# Altium footprint library PCB - IND - INDC2012X92N_V.PcbLib: 1 footprints
Each footprint in its own frame and in the unit in brackets; x right, y up, seen from the top. Pads: shape width x height; smd on the part's side, far side on the other; paste and mask are expansions set on the pad; w line width, h text height; cw(c..) or ccw(c..) is an arc to the next point about the centre after c.
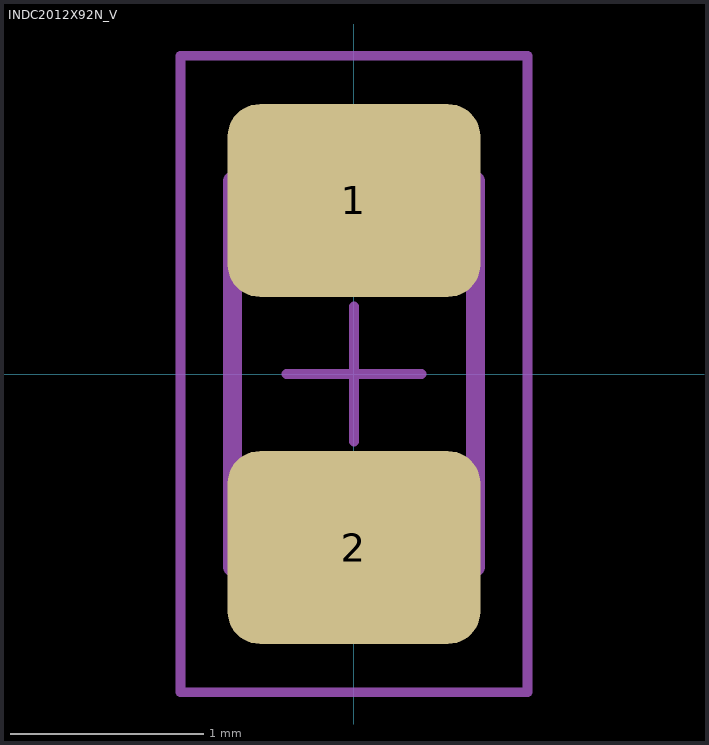
[diagram p0: the footprint, top view; thin cyan lines are the x and y axes]

## INDC2012X92N_V [mm] "Chip Inductor, 2-Leads, Body 2,0x1,2mm, IPC Medium Density"
height 0.92
pads (2):
  rrect33% 1.31x1 smd: 1(0,0.9) 2(0,-0.9)
Top Assembly:
  lines w0.1: -0.625,-0.6 0.63,-0.6 ; -0.625,0.6 0.625,0.6 ; -0.63,-1 -0.63,1 0.63,1 0.63,-1 -0.63,-1
Top Courtyard:
  lines w0.05: -0.9,-1.65 -0.9,1.65 0.9,1.65 0.9,-1.65 -0.9,-1.65
Top Designator:
  text ".Designator" at 0.375,1.175 h0.7
Top Component Center:
  lines w0.05: -0.35,0 0.35,0 ; 0,-0.35 0,0.35
3D body "742792040_Download_STP_WE-CBF-0805_rev1.stp": height 0.91, standoff 0.01, extent -0.6,-1 0.6,1